# EAGLE library part 428521420910 (library Wurth_Elektronik_Electromechanic_Switchs_rev15b)
WS-RSS-10x10 mm washable SMD Rotary Switch,6 pins,10 position
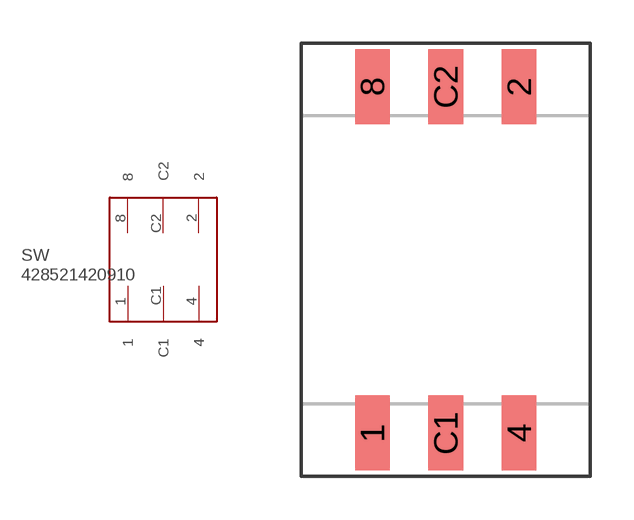
[diagram p11: symbol with the pads of 428521420910; footprint 428521420910]

Designator prefix SW

## 428521420910  [428521420910]
1  1
2  2
4  4
8  8
C1  C1
C2  C2

## Footprint 428521420910 (pad centres in mm)
WS-RSS-10x10 mm washable SMD Rotary Switch,6 pins,10 position
smd 1.2 x 2.6: 1 -2.54,-6; 2 2.54,6; 4 2.54,-6; 8 -2.54,6; C1 0,-6; C2 0,6